# Altium schematic symbol library RLS-397.SchLib: 1 symbol
Pins are listed as number, name and electrical type; pins without a type are passive.

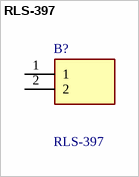
[diagram p0: symbol RLS-397]

## RLS-397
designator B?
Inductor Power Unshielded Wirewound 3.9uH 20% 100KHz 1.32A 0.14Ohm DCR 1812 Bag; Manufacturer_Name: RECOM Power; Geometry.Height: 3.1mm; Mouser Part Number: 919-RLS-397; Mouser Price/Stock: https://www.mouser.co.uk/ProductDetail/RECOM-Power/RLS-397?qs=gZXFycFWdAMzj7SWZ0VCrw%3D%3D; Manufacturer_Part_Number: RLS-397; Datasheet Link: https://recom-power.com/pdf/Accessories/RLS-397.pdf
footprint RLS397
pins: 1, 2